# Altium schematic symbol library Altera_Array.SchLib: 1 symbol
Pins are listed as number, name and electrical type; pins without a type are passive.

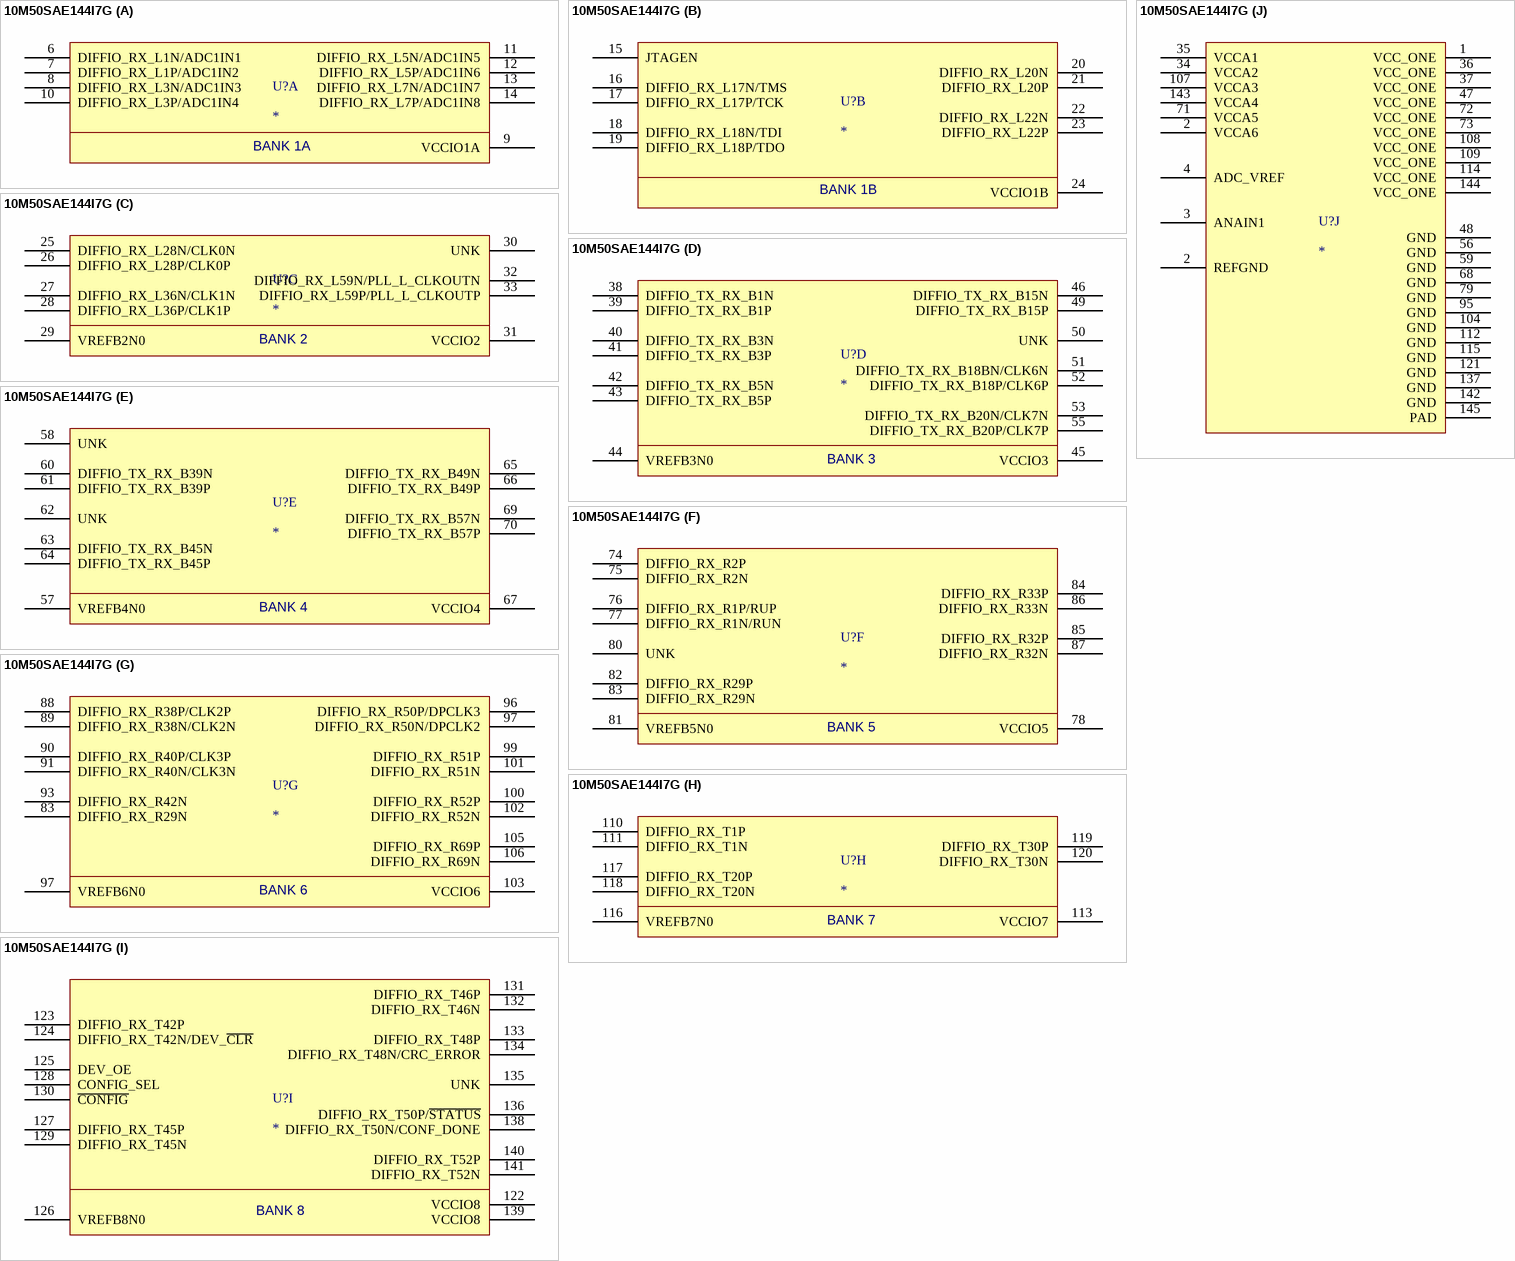
[diagram p0: symbol 10M50SAE144I7G]

## 10M50SAE144I7G
designator U?
IC FPGA 101 I/O 144EQFP
footprint TSQFP50P2200X2200X160_HS-145N (TSQFP, 144-Leads, Body 20.00x20.00mm, Pitch 0.50mm, Thermal Pad 4.00x4.00mm, IPC Medium Density)
part A pins: 6 DIFFIO_RX_L1N/ADC1IN1, 7 DIFFIO_RX_L1P/ADC1IN2, 8 DIFFIO_RX_L3N/ADC1IN3, 9 VCCIO1A, 10 DIFFIO_RX_L3P/ADC1IN4, 11 DIFFIO_RX_L5N/ADC1IN5, 12 DIFFIO_RX_L5P/ADC1IN6, 13 DIFFIO_RX_L7N/ADC1IN7, 14 DIFFIO_RX_L7P/ADC1IN8
part B pins: 15 JTAGEN, 16 DIFFIO_RX_L17N/TMS, 17 DIFFIO_RX_L17P/TCK, 18 DIFFIO_RX_L18N/TDI, 19 DIFFIO_RX_L18P/TDO, 20 DIFFIO_RX_L20N, 21 DIFFIO_RX_L20P, 22 DIFFIO_RX_L22N, 23 DIFFIO_RX_L22P, 24 VCCIO1B
part C pins: 25 DIFFIO_RX_L28N/CLK0N, 26 DIFFIO_RX_L28P/CLK0P, 27 DIFFIO_RX_L36N/CLK1N, 28 DIFFIO_RX_L36P/CLK1P, 29 VREFB2N0, 30 UNK, 31 VCCIO2, 32 DIFFIO_RX_L59N/PLL_L_CLKOUTN, 33 DIFFIO_RX_L59P/PLL_L_CLKOUTP
part D pins: 38 DIFFIO_TX_RX_B1N, 39 DIFFIO_TX_RX_B1P, 40 DIFFIO_TX_RX_B3N, 41 DIFFIO_TX_RX_B3P, 42 DIFFIO_TX_RX_B5N, 43 DIFFIO_TX_RX_B5P, 44 VREFB3N0, 45 VCCIO3, 46 DIFFIO_TX_RX_B15N, 49 DIFFIO_TX_RX_B15P, 50 UNK, 51 DIFFIO_TX_RX_B18BN/CLK6N, 52 DIFFIO_TX_RX_B18P/CLK6P, 53 DIFFIO_TX_RX_B20N/CLK7N, 55 DIFFIO_TX_RX_B20P/CLK7P
part E pins: 57 VREFB4N0, 58 UNK, 60 DIFFIO_TX_RX_B39N, 61 DIFFIO_TX_RX_B39P, 62 UNK, 63 DIFFIO_TX_RX_B45N, 64 DIFFIO_TX_RX_B45P, 65 DIFFIO_TX_RX_B49N, 66 DIFFIO_TX_RX_B49P, 67 VCCIO4, 69 DIFFIO_TX_RX_B57N, 70 DIFFIO_TX_RX_B57P
part F pins: 74 DIFFIO_RX_R2P, 75 DIFFIO_RX_R2N, 76 DIFFIO_RX_R1P/RUP, 77 DIFFIO_RX_R1N/RUN, 78 VCCIO5, 80 UNK, 81 VREFB5N0, 82 DIFFIO_RX_R29P, 83 DIFFIO_RX_R29N, 84 DIFFIO_RX_R33P, 85 DIFFIO_RX_R32P, 86 DIFFIO_RX_R33N, 87 DIFFIO_RX_R32N
part G pins: 83 DIFFIO_RX_R29N, 88 DIFFIO_RX_R38P/CLK2P, 89 DIFFIO_RX_R38N/CLK2N, 90 DIFFIO_RX_R40P/CLK3P, 91 DIFFIO_RX_R40N/CLK3N, 93 DIFFIO_RX_R42N, 96 DIFFIO_RX_R50P/DPCLK3, 97 VREFB6N0, 97 DIFFIO_RX_R50N/DPCLK2, 99 DIFFIO_RX_R51P, 100 DIFFIO_RX_R52P, 101 DIFFIO_RX_R51N, 102 DIFFIO_RX_R52N, 103 VCCIO6, 105 DIFFIO_RX_R69P, 106 DIFFIO_RX_R69N
part H pins: 110 DIFFIO_RX_T1P, 111 DIFFIO_RX_T1N, 113 VCCIO7, 116 VREFB7N0, 117 DIFFIO_RX_T20P, 118 DIFFIO_RX_T20N, 119 DIFFIO_RX_T30P, 120 DIFFIO_RX_T30N
part I pins: 122 VCCIO8, 123 DIFFIO_RX_T42P, 124 DIFFIO_RX_T42N/DEV_~{CLR}, 125 DEV_OE, 126 VREFB8N0, 127 DIFFIO_RX_T45P, 128 CONFIG_SEL, 129 DIFFIO_RX_T45N, 130 ~{CONFIG}, 131 DIFFIO_RX_T46P, 132 DIFFIO_RX_T46N, 133 DIFFIO_RX_T48P, 134 DIFFIO_RX_T48N/CRC_ERROR, 135 UNK, 136 DIFFIO_RX_T50P/~{STATUS}, 138 DIFFIO_RX_T50N/CONF_DONE, 139 VCCIO8, 140 DIFFIO_RX_T52P, 141 DIFFIO_RX_T52N
part J pins: 1 VCC_ONE, 2 VCCA6, 2 REFGND, 3 ANAIN1, 4 ADC_VREF, 34 VCCA2, 35 VCCA1, 36 VCC_ONE, 37 VCC_ONE, 47 VCC_ONE, 48 GND, 56 GND, 59 GND, 68 GND, 71 VCCA5, 72 VCC_ONE, 73 VCC_ONE, 79 GND, 95 GND, 104 GND, 107 VCCA3, 108 VCC_ONE, 109 VCC_ONE, 112 GND, 114 VCC_ONE, 115 GND, 121 GND, 137 GND, 142 GND, 143 VCCA4, 144 VCC_ONE, 145 PAD
part A text: BANK 1A
part B text: BANK 1B
part C text: BANK 2
part D text: BANK 3
part E text: BANK 4
part F text: BANK 5
part G text: BANK 6
part H text: BANK 7
part I text: BANK 8